# Altium footprint library CUI_PJ-009BH.PcbLib: 1 footprints
Each footprint in its own frame and in the unit in brackets; x right, y up, seen from the top. Pads: shape width x height; smd on the part's side, far side on the other; paste and mask are expansions set on the pad; w line width, h text height; cw(c..) or ccw(c..) is an arc to the next point about the centre after c.
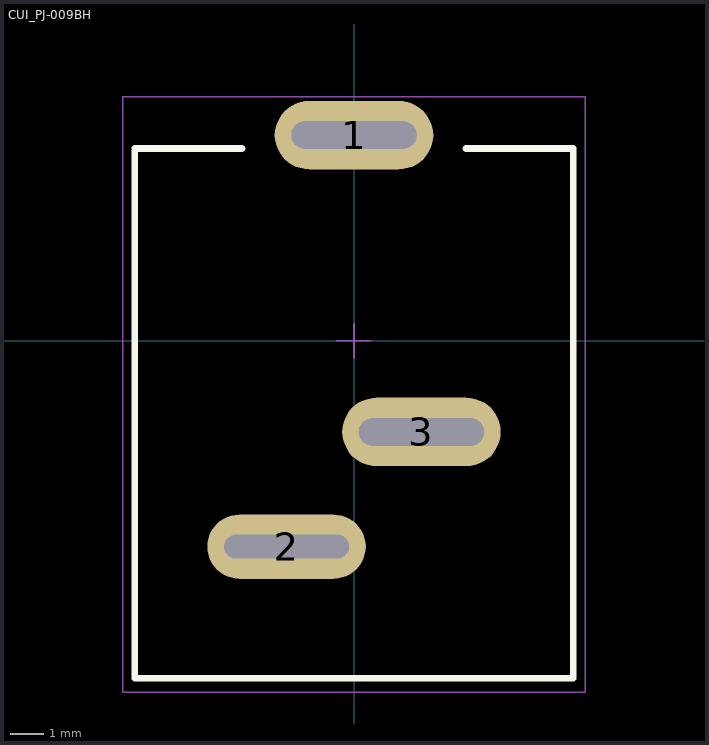
[diagram p0: the footprint, top view; thin cyan lines are the x and y axes]

## CUI_PJ-009BH [mil]
pads (3):
  oval 185x80 hole 32 slot 146 at 0 deg: 1(0,240.16) 3(78.74,-106.3)
  oval 185x75 hole 27.56 slot 145.67 at 0 deg: 2(-78.74,-240.16)
Top Overlay:
  lines w7.87: -130.59,224.41 -255.91,224.41 -255.91,-393.7 255.91,-393.7 255.91,224.41 130.59,224.41
Mechanical 15:
  lines w1.97: -20,0 20,0 ; 0,-20 0,20 ; -270,-410 270,-410 270,285 -270,285 -270,-410